# EAGLE library part CLOCK-4DIGIT (library led-seg)
Full CLOCK function and full 4 digits segment led(with 4 points and 2 seconds dot) Hyl 2011.1.9
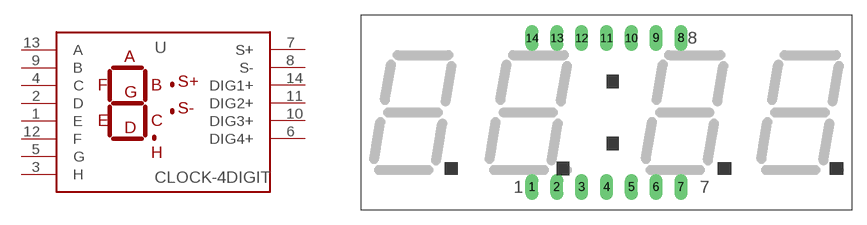
[diagram p10: symbol with the pads of LG5643FH-50MMX20MM; footprint LG5643FH-50MMX20MM]

Designator prefix -

## CLOCK-4DIGIT  [LG5643FH-50MMX20MM]
1  E  in
2  D  in
3  H  in
4  C  in
5  G  in
6  DIG4+  in
7  S+  in
8  S-  in
9  B  in
10  DIG3+  in
11  DIG2+  in
12  F  in
13  A  in
14  DIG1+  in

## Footprint LG5643FH-50MMX20MM (pad centres in mm)
drill 0.8 long: 1 -7.62,-7.62; 2 -5.08,-7.62; 3 -2.54,-7.62; 4 0,-7.62; 5 2.54,-7.62; 6 5.08,-7.62; 7 7.62,-7.62; 8 7.62,7.62; 9 5.08,7.62; 10 2.54,7.62; 11 0,7.62; 12 -2.54,7.62; 13 -5.08,7.62; 14 -7.62,7.62